# Altium footprint library 电荷泵.PcbLib: 1 footprints
Each footprint in its own frame and in the unit in brackets; x right, y up, seen from the top. Pads: shape width x height; smd on the part's side, far side on the other; paste and mask are expansions set on the pad; w line width, h text height; cw(c..) or ccw(c..) is an arc to the next point about the centre after c.
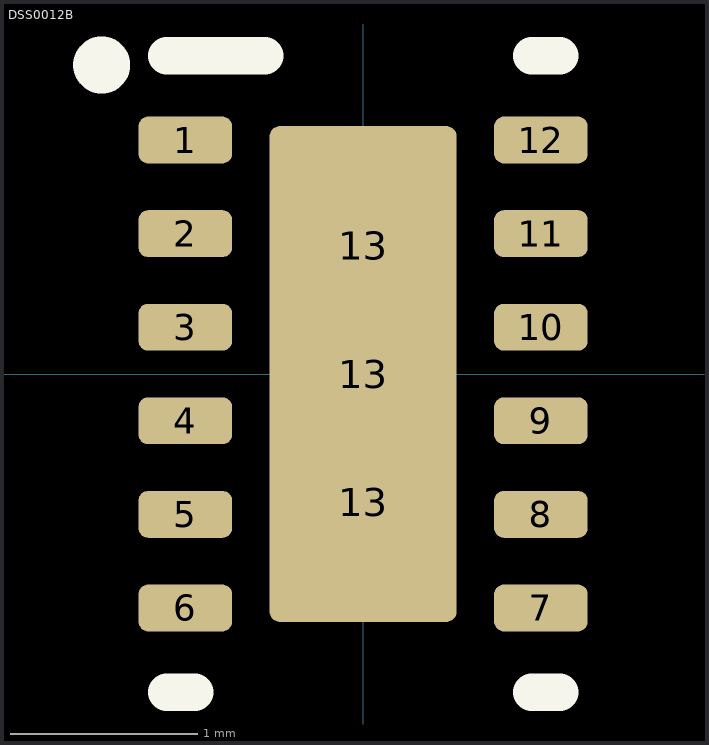
[diagram p0: the footprint, top view; thin cyan lines are the x and y axes]

## DSS0012B [mm] "SON, 12-Leads, Body 2x3mm, Pitch 0.5mm, Thermal Pad 2.65x1.0mm, TI Recommended"
height 0.8
pads (15):
  rrect40% 0.5x0.25 smd: 1(-0.95,1.25) 2(-0.95,0.75) 3(-0.95,0.25) 4(-0.95,-0.25) 5(-0.95,-0.75) 6(-0.95,-1.25) 7(0.95,-1.25) 8(0.95,-0.75) 9(0.95,-0.25) 10(0.95,0.25) 11(0.95,0.75) 12(0.95,1.25)
  rrect11% 0.949x1.168 on Top Paste: 13(0,-0.684) 13(0,0.684)
  rrect11% 1x2.65 smd paste-0.5: 13(0,0)
Top Overlay:
  circle w0.254: c-1.397,1.651 r0.025
  lines w0.2: -1.05,-1.7 -0.9,-1.7 ; -1.05,1.7 -0.525,1.7 ; 0.9,-1.7 1.05,-1.7 ; 0.9,1.7 1.05,1.7
3D body "U2.step": height 1.01, standoff 0, extent -1.01,-1.5 1.01,1.5